# EAGLE library part STM32L433RCY6 (library circuit_tree)
IC
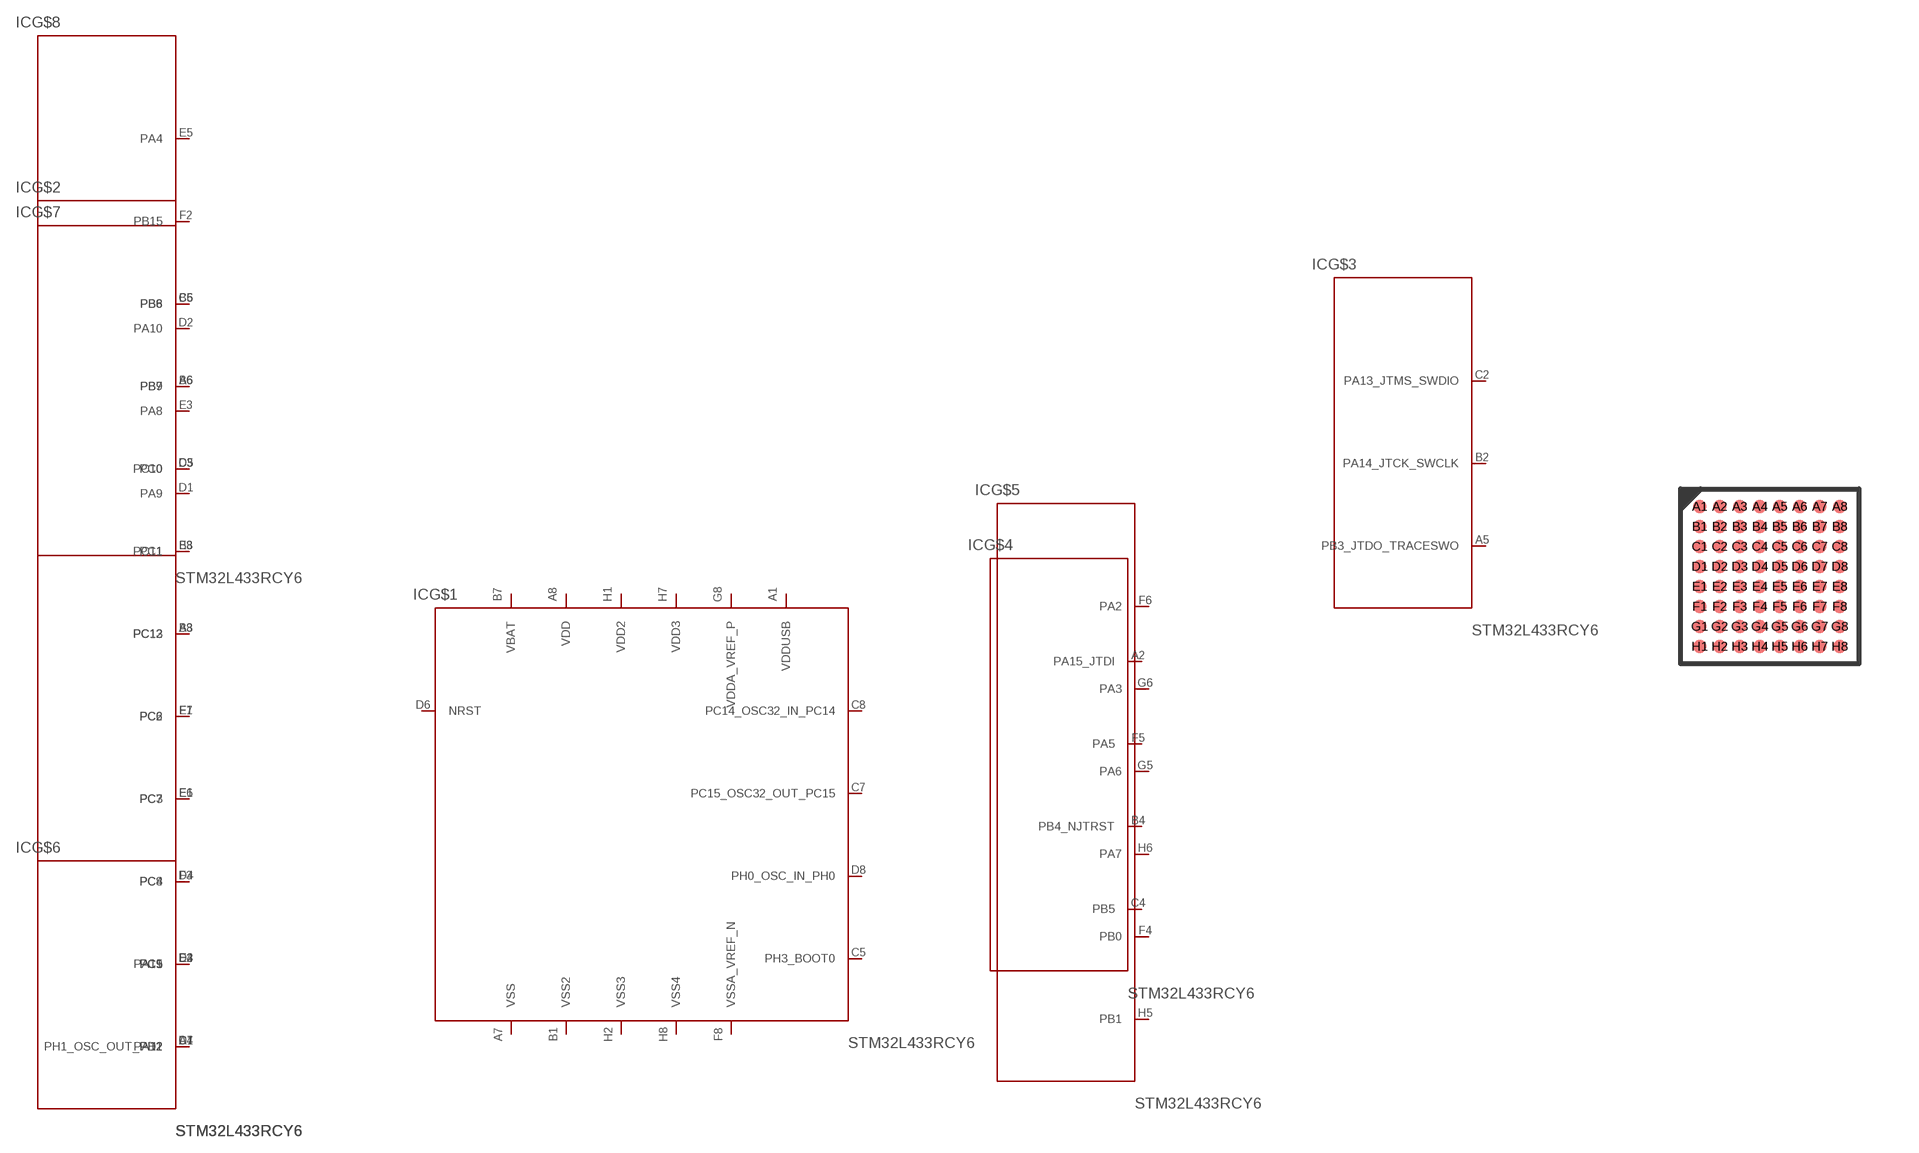
[diagram p8: symbol with the pads of WLCSP64; footprint WLCSP64]

Designator prefix IC; gates G$1=STM32L433RCY6 G$2=STM32L433RCY62 G$3=STM32L433RCY63 G$4=STM32L433RCY64 G$5=STM32L433RCY65 G$6=STM32L433RCY66 G$7=STM32L433RCY67 G$8=STM32L433RCY68

## STM32L433RCY6  [WLCSP64]
A1  G$1:VDDUSB  pas
A2  G$4:PA15_JTDI  pas
A3  G$2:PC12  pas
A4  G$2:PD2  pas
A5  G$3:PB3_JTDO_TRACESWO  pas
A6  G$8:PB7  pas
A7  G$1:VSS  pas
A8  G$1:VDD  pas
B1  G$1:VSS2  pas
B2  G$3:PA14_JTCK_SWCLK  pas
B3  G$2:PC11  pas
B4  G$4:PB4_NJTRST  pas
B5  G$8:PB6  pas
B6  G$2:PB9  pas
B7  G$1:VBAT  pas
B8  G$8:PC13  pas
C1  G$6:PA12  pas
C2  G$3:PA13_JTMS_SWDIO  pas
C3  G$2:PC10  pas
C4  G$4:PB5  pas
C5  G$1:PH3_BOOT0  pas
C6  G$2:PB8  pas
C7  G$1:PC15_OSC32_OUT_PC15  pas
C8  G$1:PC14_OSC32_IN_PC14  pas
D1  G$7:PA9  pas
D2  G$7:PA10  pas
D3  G$6:PA11  pas
D4  G$8:PC4  pas
D5  G$8:PC0  pas
D6  G$1:NRST  pas
D7  G$8:PH1_OSC_OUT_PH1  pas
D8  G$1:PH0_OSC_IN_PH0  pas
E1  G$2:PC7  pas
E2  G$2:PC9  pas
E3  G$7:PA8  pas
E4  G$8:PC5  pas
E5  G$8:PA4  pas
E6  G$8:PC3  pas
E7  G$8:PC2  pas
E8  G$8:PC1  pas
F1  G$2:PC6  pas
F2  G$8:PB15  pas
F3  G$2:PC8  pas
F4  G$5:PB0  pas
F5  G$4:PA5  pas
F6  G$5:PA2  pas
F8  G$1:VSSA_VREF_N  pas
G5  G$5:PA6  pas
G6  G$5:PA3  pas
G8  G$1:VDDA_VREF_P  pas
H1  G$1:VDD2  pas
H2  G$1:VSS3  pas
H5  G$5:PB1  pas
H6  G$5:PA7  pas
H7  G$1:VDD3  pas
H8  G$1:VSS4  pas

## Footprint WLCSP64 (pad centres in mm)
WLCSP64 4.466 x 4.395 mm, 8 x 8-pin 0.5 mm pitch wafer-level chip-scale package
smd 0.34 x 0.34: A1 -1.75,1.75; A2 -1.25,1.75; A3 -0.75,1.75; A4 -0.25,1.75; A5 0.25,1.75; A6 0.75,1.75; A7 1.25,1.75; A8 1.75,1.75; B1 -1.75,1.25; B2 -1.25,1.25; B3 -0.75,1.25; B4 -0.25,1.25; B5 0.25,1.25; B6 0.75,1.25; B7 1.25,1.25; B8 1.75,1.25; C1 -1.75,0.75; C2 -1.25,0.75; C3 -0.75,0.75; C4 -0.25,0.75; C5 0.25,0.75; C6 0.75,0.75; C7 1.25,0.75; C8 1.75,0.75; D1 -1.75,0.25; D2 -1.25,0.25; D3 -0.75,0.25; D4 -0.25,0.25; D5 0.25,0.25; D6 0.75,0.25; D7 1.25,0.25; D8 1.75,0.25; E1 -1.75,-0.25; E2 -1.25,-0.25; E3 -0.75,-0.25; E4 -0.25,-0.25; E5 0.25,-0.25; E6 0.75,-0.25; E7 1.25,-0.25; E8 1.75,-0.25; F1 -1.75,-0.75; F2 -1.25,-0.75; F3 -0.75,-0.75; F4 -0.25,-0.75; F5 0.25,-0.75; F6 0.75,-0.75; F7 1.25,-0.75; F8 1.75,-0.75; G1 -1.75,-1.25; G2 -1.25,-1.25; G3 -0.75,-1.25; G4 -0.25,-1.25; G5 0.25,-1.25; G6 0.75,-1.25; G7 1.25,-1.25; G8 1.75,-1.25; H1 -1.75,-1.75; H2 -1.25,-1.75; H3 -0.75,-1.75; H4 -0.25,-1.75; H5 0.25,-1.75; H6 0.75,-1.75; H7 1.25,-1.75; H8 1.75,-1.75